# Altium schematic symbol library 70246-2001.SchLib: 1 symbol
Pins are listed as number, name and electrical type; pins without a type are passive.

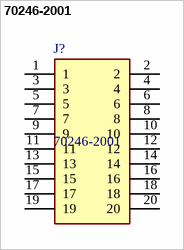
[diagram p0: symbol 70246-2001]

## 70246-2001
designator J?
Headers & Wire Housings 20CKT SHRD HDR; Manufacturer_Name: Molex; Geometry.Height: 9.47mm; Manufacturer_Part_Number: 70246-2001; Mouser Part Number: 538-70246-2001; Mouser Price/Stock: https://www.mouser.co.uk/ProductDetail/Molex/70246-2001?qs=L7RdmAxh%252BcMgmUPcB5dMoQ%3D%3D; Arrow Part Number: *; Arrow Price/Stock: *; Datasheet Link: https://componentsearchengine.com/Datasheets/2/70246-2001.pdf
footprint SHDR20W99P254_2X10_3302X889X947P
pins: 1, 2, 3, 4, 5, 6, 7, 8, 9, 10, 11, 12, 13, 14, 15, 16, 17, 18, 19, 20